# Altium footprint library Inductors.PcbLib: 5 footprints
Each footprint in its own frame and in the unit in brackets; x right, y up, seen from the top. Pads: shape width x height; smd on the part's side, far side on the other; paste and mask are expansions set on the pad; w line width, h text height; cw(c..) or ccw(c..) is an arc to the next point about the centre after c.
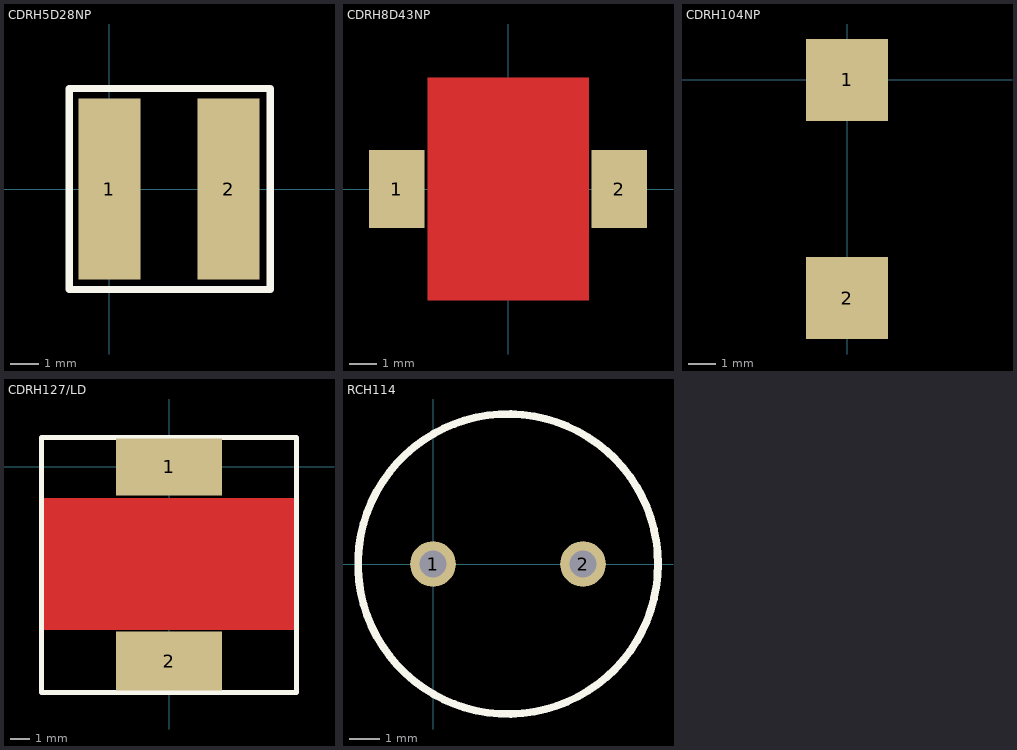
[diagram p0: the footprints below, top view; thin cyan lines are the x and y axes]

## CDRH5D28NP [mm] "POWER INDUCTORS <SMD Type: CDRH Series>"
pads (2):
  rect 2.15x6.3 smd: 1(0,0) 2(4.15,0)
Top Overlay:
  lines w0.254: -1.4,-3.5 5.6,-3.5 5.6,3.5 -1.4,3.5 -1.4,-3.5
3D body: height 3, standoff 0, extent -0.814,-2.889 4.964,2.9
3D body: height 2.8, standoff 0, extent -0.814,2.6 2,2.9
3D body: height 2.8, standoff 0, extent -0.825,0.093 -0.525,2.907
3D body: height 2.8, standoff 0, extent 4.675,-2.895 4.975,-0.082
3D body: height 2.8, standoff 0, extent 2.15,-2.889 4.964,-2.589

## CDRH8D43NP [mm]
pads (2):
  rect 2x2.8 smd: 1(-4,-0.002) 2(3.988,-0.002)
Top Layer:
  pour cut-out: -2.9,4 2.9,4 2.9,-4 -2.9,-4
3D body: height 4.5, standoff 0, extent -4,-4.004 3.988,4

## CDRH104NP [mm]
pads (2):
  rect 3x3 smd: 1(0,0) 2(0,-8)
3D body: height 5, standoff 0.2, extent -4.5,-9 4.5,1

## CDRH127/LD [mm]
pads (2):
  rect 5.4x2.9 smd: 1(0,0)
  rect 5.4x3 smd: 2(0,-9.9)
Top Layer:
  pour cut-out: -6.5,-1.6 6.5,-1.6 6.5,-8.3 -6.5,-8.3
Top Overlay:
  lines w0.254: -6.5,-11.5 6.5,-11.5 6.5,1.5 -6.5,1.5 -6.5,-11.5
3D body: height 8, standoff 0, extent -6.457,-11.492 -2.472,-7.5
3D body: height 8, standoff 0, extent 2.543,-11.492 6.528,-7.5
3D body: height 8, standoff 0, extent 2.543,-2.492 6.528,1.5
3D body: height 8, standoff 0, extent -6.457,-2.492 -2.472,1.5
3D body: height 8, standoff 0.2, extent -4.5,-11.5 4.5,-10.5
3D body: height 8, standoff 0.2, extent -4.5,0.5 4.5,1.5
3D body: height 8, standoff 0.2, extent 5.5,-9.5 6.5,-0.5
3D body: height 8, standoff 0, extent -5.457,-10.489 5.5,0.489
3D body: height 8, standoff 0.2, extent -6.5,-9.5 -5.5,-0.5

## RCH114 [mil] "Дроссель"
pads (2):
  round 60 hole 35.43: 1(0,0) 2(196.85,0)
Top Overlay:
  circle w10: c98.43,0 r196.85
3D body: height 570.87, standoff 3.94, extent -98.43,-196.85 293.72,196.07